# Altium footprint library 1759503-1.PcbLib: 1 footprints
Each footprint in its own frame and in the unit in brackets; x right, y up, seen from the top. Pads: shape width x height; smd on the part's side, far side on the other; paste and mask are expansions set on the pad; w line width, h text height; cw(c..) or ccw(c..) is an arc to the next point about the centre after c.
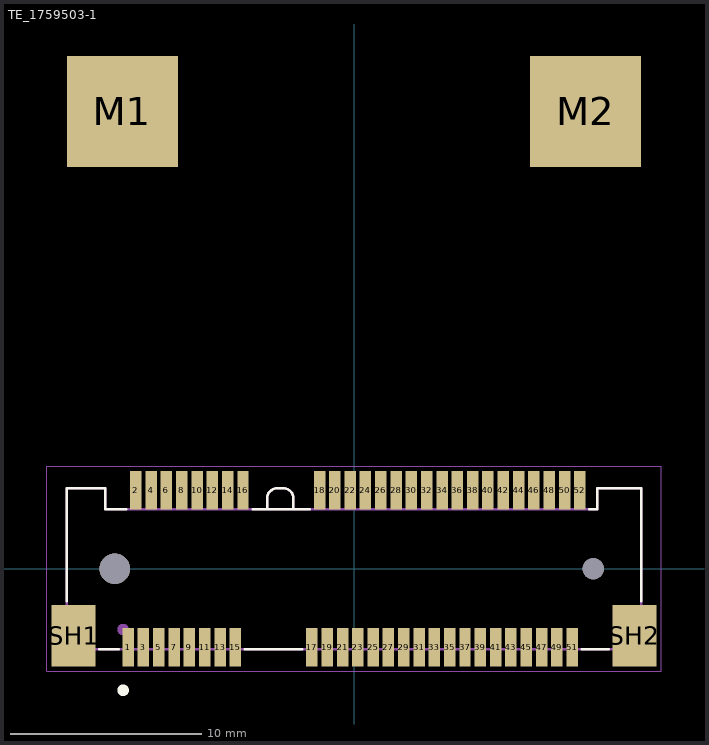
[diagram p0: the footprint, top view; thin cyan lines are the x and y axes]

## TE_1759503-1 [mm]
pads (58):
  rect 0.6x2 smd: 1(-11.8,-4.1) 2(-11.4,4.1) 3(-11,-4.1) 4(-10.6,4.1) 5(-10.2,-4.1) 6(-9.8,4.1) 7(-9.4,-4.1) 8(-9,4.1) 9(-8.6,-4.1) 10(-8.2,4.1) 11(-7.8,-4.1) 12(-7.4,4.1) 13(-7,-4.1) 14(-6.6,4.1) 15(-6.2,-4.1) 16(-5.8,4.1) 17(-2.2,-4.1) 18(-1.8,4.1) 19(-1.4,-4.1) 20(-1,4.1) 21(-0.6,-4.1) 22(-0.2,4.1) 23(0.2,-4.1) 24(0.6,4.1) 25(1,-4.1) 26(1.4,4.1) 27(1.8,-4.1) 28(2.2,4.1) 29(2.6,-4.1) 30(3,4.1) 31(3.4,-4.1) 32(3.8,4.1) 33(4.2,-4.1) 34(4.6,4.1) 35(5,-4.1) 36(5.4,4.1) 37(5.8,-4.1) 38(6.2,4.1) 39(6.6,-4.1) 40(7,4.1) 41(7.4,-4.1) 42(7.8,4.1) 43(8.2,-4.1) 44(8.6,4.1) 45(9,-4.1) 46(9.4,4.1) 47(9.8,-4.1) 48(10.2,4.1) 49(10.6,-4.1) 50(11,4.1) 51(11.4,-4.1) 52(11.8,4.1)
  rect 5.8x5.8 smd: M1(-12.1,23.9) M2(12.1,23.9)
  rect 2.3x3.2 smd: SH1(-14.65,-3.5) SH2(14.65,-3.5)
  round 1.6 hole 1.6 unplated: ""(-12.5,0)
  round 1.1 hole 1.1 unplated: ""(12.5,0)
Top Overlay:
  circle w0.4: c-12.065,-6.35 r0.1
  lines w0.127: -15,-1.7 -15,4.2 -13,4.2 -13,3.1 -11.9,3.1 ; -13.3,-4.2 -12.3,-4.2 ; -5.7,-4.2 -2.7,-4.2 ; -5.3,3.1 -4.535,3.1 ; -4.535,3.7 -4.535,3.1 ; -4.535,3.701 cw(c-4.018,3.682) -3.999,4.2 ; -4,4.2 -3.7,4.2 ; -3.701,4.2 cw(c-3.682,3.682) -3.165,3.701 ; -3.165,3.7 -3.165,3.1 ; -2.3,3.1 -3.165,3.1 ; 11.9,-4.2 13.3,-4.2 ; 12.3,3.1 12.7,3.1 12.7,4.2 15,4.2 15,-1.7 ; -4.535,3.1 -3.165,3.1
Mechanical 13:
  circle w0.4: c-12.065,-3.175 r0.1
  lines w0.127: -4.535,3.7 -4.535,3.1 ; -4.535,3.701 cw(c-4.018,3.682) -3.999,4.2 ; -4,4.2 -3.7,4.2 ; -3.701,4.2 cw(c-3.682,3.682) -3.165,3.701 ; -3.165,3.7 -3.165,3.1 ; -4.535,3.1 -3.165,3.1 ; -4.535,3.1 -13,3.1 -13,4.2 -15,4.2 -15,-4.2 15,-4.2 15,4.2 12.7,4.2 12.7,3.1 -3.165,3.1
Mechanical 15:
  lines w0.05: -16.05,-5.35 -16.05,5.35 16.05,5.35 16.05,-5.35 -16.05,-5.35
3D body "step_temp.STEP": height 8.45, standoff -8.45, extent -18.75,0 18.75,22.9